# Altium footprint library SJ-3502-SMT.PcbLib: 1 footprints
Each footprint in its own frame and in the unit in brackets; x right, y up, seen from the top. Pads: shape width x height; smd on the part's side, far side on the other; paste and mask are expansions set on the pad; w line width, h text height; cw(c..) or ccw(c..) is an arc to the next point about the centre after c.
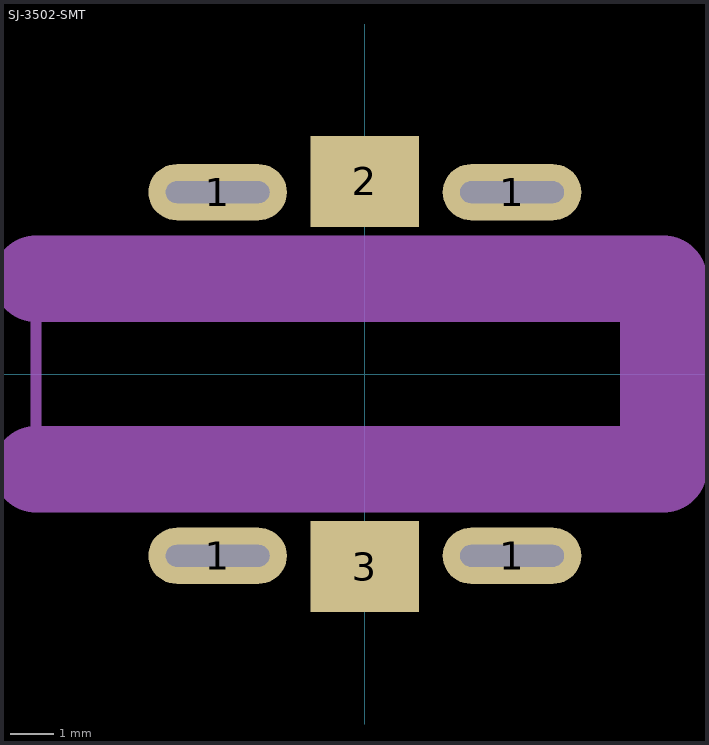
[diagram p0: the footprint, top view; thin cyan lines are the x and y axes]

## SJ-3502-SMT [mm] "CONN JACK STEREO 3.5MM SMD R/A"
pads (6):
  rrect100% 3.2x1.3 hole 0.5 slot 2.4 at 0 deg: 1(-3.4,-4.2) 1(-3.4,4.2) 1(3.4,-4.2) 1(3.4,4.2)
  rect 2.5x2.1 smd: 2(0,4.45) 3(0,-4.45)
Mechanical 1:
  lines w0.254: -7.6,-2.25 -7.6,2.25 -5.6,2.25 -5.6,3.05 7.1,3.05 7.1,-3.05 -5.6,-3.05 -5.6,-2.25 -7.6,-2.25
Mechanical 6:
  lines w2: -7.6,-2.2 6.9,-2.2 6.9,2.2 -7.6,2.2
3D body "sj-3502-smt.stp": height 2.75, standoff -1.75, extent -7.6,-4.95 6.9,4.95